# Altium integrated library button.IntLib: 1 symbol
Pins are listed as number, name and electrical type; pins without a type are passive.

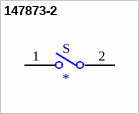
[diagram p0: symbol 147873-2]

## 147873-2
designator S
Switch Tactile OFF _ON_ SPST Rectangular Button J-Bend 0.05A 24VDC 1.77N SMD T/R; MP: 147873-2; Contact_Current_Rating: 50 mA; Configuration_Pole-Throw: Single Pole - Single Throw; MF: TE Connectivity; Value: *; Digi-Key_Purchase_URL: https://www.digikey.it/product-detail/en/te-connectivity-alcoswitch-switches/147873-2/450-2049-1-ND/4146922?utm_source=snapeda&utm_medium=aggregator&utm_campaign=symbol; Package: None; TE_purchase_URL: https://www.te.com/usa-en/product-147873-2.html?te_bu=Cor&te_type=disp&te_campaign=seda_glo_cor-seda-global-disp-prtnr-fy19-seda-model-bom-cta_sma-317_1&elqCampaignId=32493; Digi-Key_Part_Number: 450-2049-1-ND; SnapEDA_Link: https://www.snapeda.com/parts/147873-2/TE%20Connectivity%20ALCOSWITCH%20Switches/view-part/275175/?ref=snap
footprint SW_147873-2
pins: 1, 2